# EAGLE library part E?1X06 (library apbteam_con-amp-he14)
Male header simple row, 6 positions
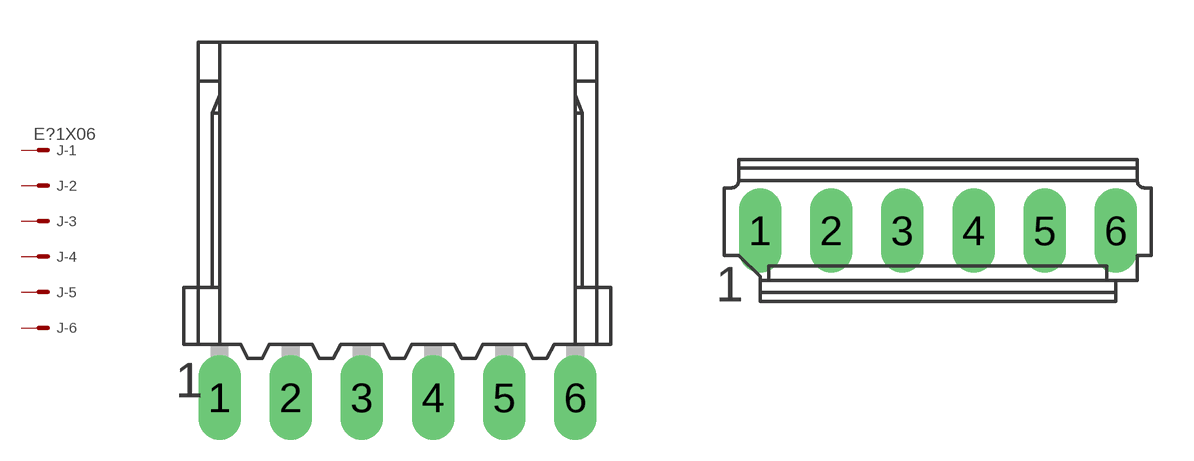
[diagram p0: symbol with the pads of EC1X06; footprints EC1X06, ED1X06]

Designator prefix J; gates -1=MS -2=M -3=M -4=M -5=M -6=M

## EC1X06  [EC1X06]
1  -1:S  pas
2  -2:S  pas
3  -3:S  pas
4  -4:S  pas
5  -5:S  pas
6  -6:S  pas

## ED1X06  [ED1X06]
Pads as for EC1X06

## Footprint EC1X06 (pad centres in mm)
Male header simple row, 90° exits, 6 positions HE14, tin plated: 0-281 698-6 HE14, gold plated version: 0-142 777-6 HE13, gold plated version: 0-281 699-6
drill 1 long: 1 -6.35,0; 2 -3.81,0; 3 -1.27,0; 4 1.27,0; 5 3.81,0; 6 6.35,0

## Footprint ED1X06 (pad centres in mm)
Male header simple row, straight exits, 6 positions HE14, tin plated: 0-281 695-6 HE14, gold plated version: 0-142 776-6 HE13, gold plated version: 0-281 696-6
drill 1 long: 1 -6.35,0; 2 -3.81,0; 3 -1.27,0; 4 1.27,0; 5 3.81,0; 6 6.35,0